# EAGLE library part MT48H8M32LFB5 (library m-pad)
Micron's Mobile SDRAM MT48H8M32LF ? 2 Meg x 32 x 4 banks Description: The Micron® 256Mb Mobile SDRAM is a high-speed CMOS, dynamic random-access memory containing 268,435,456-bits. It is internally configured as a quad-bank DRAM with a synchronous interface (all signals are registered on the positive edge of the clock signal, CLK). Each of the x16?s 67,108,864-bit banks is organized as 8,192 rows by 512K columns by 16 bits. Each of the x32?s 67,108,864-bit banks is organized as 4,096 rows by 256 columns by 32 bits. Read and write accesses to the SDRAM are burst oriented; accesses start at a selected location and continue for a programmed number of locations in a programmed sequence. Accesses begin with the registration of an ACTIVE command, which is then followed by a READ or WRITE command. The address bits registered coincident with the ACTIVE command are used to select the bank and row to be accessed (BA0, BA1 select the bank; A0?A12 select the row). The address bits registered coincident with the READ or WRITE command are used to select the starting column location for the burst access. The SDRAM provides for programmable read or write BLs of 1, 2, 4, 8, or full page locations with a read burst terminate option. An auto precharge function may be enabled to provide a self-timed row precharge that is initiated at the end of the burst sequence. The 256Mb SDRAM uses an internal pipelined architecture to achieve high-speed operation. This architecture is compatible with the 2n rule of prefetch architectures, but it also allows the column address to be changed on every clock cycle to achieve a high-speed, fully random access. Precharging one bank while accessing one of the other three banks will hide the precharge cycles and provide seamless high-speed, random-access operation. The 256Mb SDRAM is designed to operate in 1.8V low-power memory systems. An auto refresh mode is provided, along with a power-saving deep power-down mode. All inputs and outputs are LVTTL-compatible. SDRAM offers substantial advances in DRAM operating performance, including the ability to synchronously burst data at a high data rate with automatic column-address generation, the ability to interleave between internal banks in order to hide precharge time, and the capability to randomly change column addresses on each clock cycle during a burst access. Features: Fully synchronous; all signals registered on positive edge of system clock VDD/VDDQ = 1.70?1.95V Internal, pipelined operation; column address can be changed every clock cycle Four internal banks for concurrent operation Programmable burst lengths: 1, 2, 4, 8, or full page Auto precharge, includes concurrent auto precharge Auto refresh and self refresh modes LVTTL-compatible inputs and outputs On-chip temperature sensor to control refresh rate Partial-array self refresh (PASR) Deep power-down (DPD) Selectable output drive (DS) 64ms refresh period (8,192 rows) Options Marking: VDD/VDDQ : 1.8V/1.8V H Configuration - 8 Meg x 32 (2 Meg x 32 x 4 banks) 8M32 Plastic package - 90-Ball VFBGA (8mm x 13mm)2 B5 Timing ? cycle time - 7.5ns @ CL = 3 / -75 - 8ns @ CL = 3 / -8 - 10ns @ CL = 3 / -10 Operating temperature range - Commercial (0° to +70°C) / None - Industrial (?40°C to +85°C) / IT
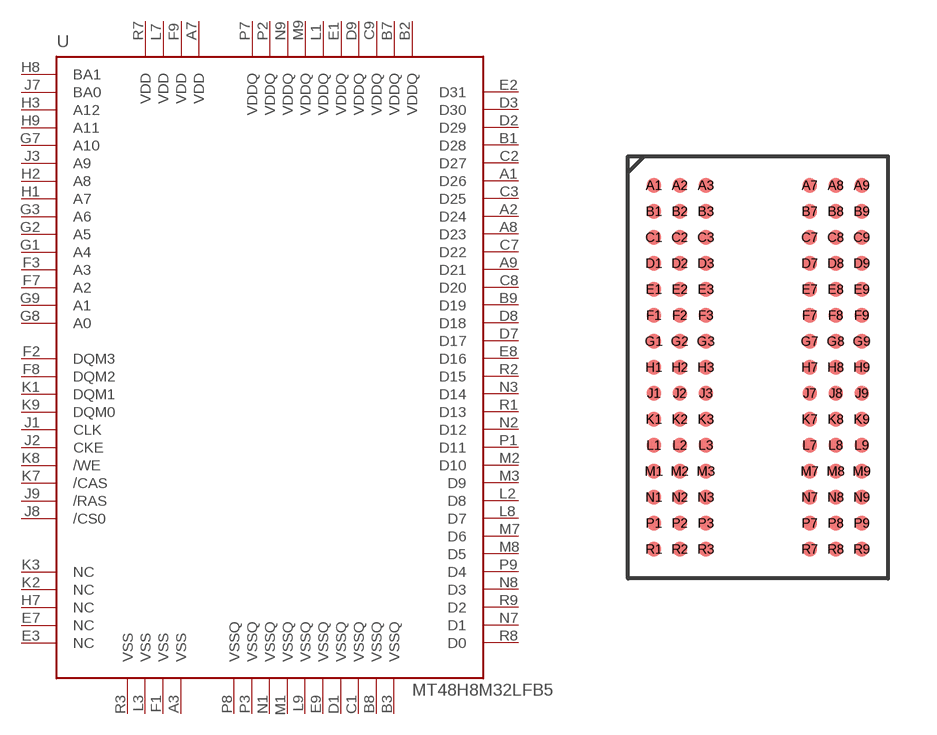
[diagram p166: symbol with the pads of 90FBGA; footprint 90FBGA]

Designator prefix U

## MT48H8M32LFB5  [90FBGA]
A1  D26
A2  D24
A3  VSS  pwr
A7  VDD  pwr
A8  D23
A9  D21
B1  D28
B2  VDDQ  pwr
B3  VSSQ  pwr
B7  VDDQ  pwr
B8  VSSQ  pwr
B9  D19
C1  VSSQ  pwr
C2  D27
C3  D25
C7  D22
C8  D20
C9  VDDQ  pwr
D1  VSSQ  pwr
D2  D29
D3  D30
D7  D17
D8  D18
D9  VDDQ  pwr
E1  VDDQ  pwr
E2  D31
E3  NC  nc
E7  NC  nc
E8  D16
E9  VSSQ  pwr
F1  VSS  pwr
F2  DQM3  in
F3  A3  in
F7  A2  in
F8  DQM2  in
F9  VDD  pwr
G1  A4  in
G2  A5  in
G3  A6  in
G7  A10  in
G8  A0  in
G9  A1  in
H1  A7  in
H2  A8  in
H3  A12  in
H7  NC  nc
H8  BA1  in
H9  A11  in
J1  CLK  in
J2  CKE  in
J3  A9  in
J7  BA0  in
J8  /CS0  in
J9  /RAS  in
K1  DQM1  in
K2  NC  nc
K3  NC  nc
K7  /CAS  in
K8  /WE  in
K9  DQM0  in
L1  VDDQ  pwr
L2  D8
L3  VSS  pwr
L7  VDD  pwr
L8  D7
L9  VSSQ  pwr
M1  VSSQ  pwr
M2  D10
M3  D9
M7  D6
M8  D5
M9  VDDQ  pwr
N1  VSSQ  pwr
N2  D12
N3  D14
N7  D1
N8  D3
N9  VDDQ  pwr
P1  D11
P2  VDDQ  pwr
P3  VSSQ  pwr
P7  VDDQ  pwr
P8  VSSQ  pwr
P9  D4
R1  D13
R2  D15
R3  VSS  pwr
R7  VDD  pwr
R8  D0
R9  D2

## Footprint 90FBGA (pad centres in mm)
90 PIN FBGA Pitch: 0.8mm balldiameter 0.5mm Please send any comments to: messi@users.sourceforge.net
smd 0.45 x 0.45: A1 -3.2,5.6; A2 -2.4,5.6; A3 -1.6,5.6; A7 1.6,5.6; A8 2.4,5.6; A9 3.2,5.6; B1 -3.2,4.8; B2 -2.4,4.8; B3 -1.6,4.8; B7 1.6,4.8; B8 2.4,4.8; B9 3.2,4.8; C1 -3.2,4; C2 -2.4,4; C3 -1.6,4; C7 1.6,4; C8 2.4,4; C9 3.2,4; D1 -3.2,3.2; D2 -2.4,3.2; D3 -1.6,3.2; D7 1.6,3.2; D8 2.4,3.2; D9 3.2,3.2; E1 -3.2,2.4; E2 -2.4,2.4; E3 -1.6,2.4; E7 1.6,2.4; E8 2.4,2.4; E9 3.2,2.4; F1 -3.2,1.6; F2 -2.4,1.6; F3 -1.6,1.6; F7 1.6,1.6; F8 2.4,1.6; F9 3.2,1.6; G1 -3.2,0.8; G2 -2.4,0.8; G3 -1.6,0.8; G7 1.6,0.8; G8 2.4,0.8; G9 3.2,0.8; H1 -3.2,0; H2 -2.4,0; H3 -1.6,0; H7 1.6,0; H8 2.4,0; H9 3.2,0; J1 -3.2,-0.8; J2 -2.4,-0.8; J3 -1.6,-0.8; J7 1.6,-0.8; J8 2.4,-0.8; J9 3.2,-0.8; K1 -3.2,-1.6; K2 -2.4,-1.6; K3 -1.6,-1.6; K7 1.6,-1.6; K8 2.4,-1.6; K9 3.2,-1.6; L1 -3.2,-2.4; L2 -2.4,-2.4; L3 -1.6,-2.4; L7 1.6,-2.4; L8 2.4,-2.4; L9 3.2,-2.4; M1 -3.2,-3.2; M2 -2.4,-3.2; M3 -1.6,-3.2; M7 1.6,-3.2; M8 2.4,-3.2; M9 3.2,-3.2; N1 -3.2,-4; N2 -2.4,-4; N3 -1.6,-4; N7 1.6,-4; N8 2.4,-4; N9 3.2,-4; P1 -3.2,-4.8; P2 -2.4,-4.8; P3 -1.6,-4.8; P7 1.6,-4.8; P8 2.4,-4.8; P9 3.2,-4.8; R1 -3.2,-5.6; R2 -2.4,-5.6; R3 -1.6,-5.6; R7 1.6,-5.6; R8 2.4,-5.6; R9 3.2,-5.6